# Altium footprint library 电感.PcbLib: 49 footprints (part 4 of 4)
Each footprint in its own frame and in the unit in brackets; x right, y up, seen from the top. Pads: shape width x height; smd on the part's side, far side on the other; paste and mask are expansions set on the pad; w line width, h text height; cw(c..) or ccw(c..) is an arc to the next point about the centre after c.
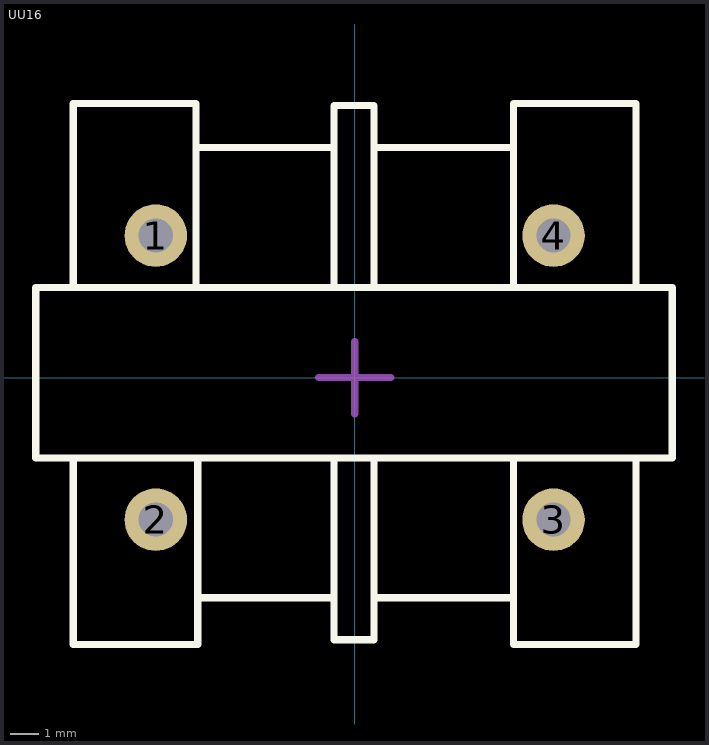
[diagram p3: the footprint, top view; thin cyan lines are the x and y axes]

## UU16 [mm] "22*17.5*23mm(长宽高）"
pads (4):
  round 2.2 hole 1.2: 1(-7,5) 2(-7,-5) 3(7,-5) 4(7,5)
Top Overlay:
  lines w0.254: -9.906,-2.826 -9.906,-9.398 -5.523,-9.398 -5.523,-2.826 ; -9.906,3.174 -9.906,9.652 -5.588,9.652 -5.588,3.174 ; -5.523,-7.749 -0.723,-7.749 ; -5.523,8.097 -0.723,8.097 ; -0.723,-2.826 -0.723,-9.226 0.677,-9.226 0.677,-2.826 ; -0.723,3.174 -0.723,9.574 0.677,9.574 0.677,3.174 ; 0.677,-7.749 5.477,-7.749 ; 0.677,8.097 5.477,8.097 ; 5.588,-2.92 5.588,-9.398 9.906,-9.398 9.906,-2.92 ; 5.588,3.174 5.588,9.652 9.906,9.652 9.906,3.174 ; -11.223,-2.826 -11.223,3.174 11.177,3.174 11.177,-2.826 -11.223,-2.826
Mechanical 15:
  lines w0.254: -1.27,0 1.27,0 ; 0,-1.27 0,1.27
3D body "UU16.STEP": height 22.05, standoff -3.45, extent -11,-8.75 11,8.75